# EAGLE library part ADS7809 (library burr-brown)
16-Bit 10us Serial CMOS Sampling ADC
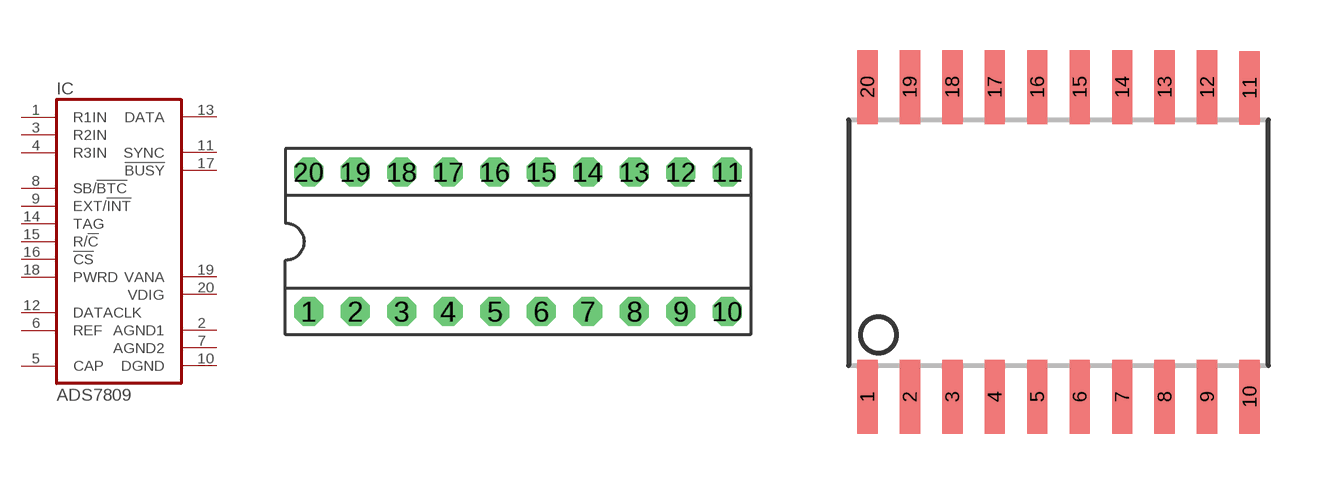
[diagram p35: symbol with the pads of DIL20; footprints DIL20, SO20L]

Designator prefix IC

## ADS7809P (MF: ALTERA CORPORATION; MPN: AD977ANZ; OC_FARNELL: 1079312; OC_NEWARK: 59K7418)  [DIL20]
1  R1IN  in
2  AGND1  pwr
3  R2IN  in
4  R3IN  in
5  CAP  pas
6  REF
7  AGND2  pwr
8  SB/!BTC  in
9  EXT/!INT  in
10  DGND  pwr
11  SYNC  out
12  DATACLK
13  DATA  out
14  TAG  in
15  R/!C  in
16  !CS  in
17  !BUSY  out
18  PWRD  in
19  VANA  pwr
20  VDIG  pwr

## ADS7809U (MF: TEXAS INSTRUMENTS; MPN: ADS7809U; OC_FARNELL: 1214386; OC_NEWARK: 80K5549)  [SO20L]
Pads as for DIL20

## Footprint DIL20 (pad centres in mm)
Dual In Line
drill 0.813 pad 1.6 octagon: 1 -11.43,-3.81; 2 -8.89,-3.81; 3 -6.35,-3.81; 4 -3.81,-3.81; 5 -1.27,-3.81; 6 1.27,-3.81; 7 3.81,-3.81; 8 6.35,-3.81; 9 8.89,-3.81; 10 11.43,-3.81; 11 11.43,3.81; 12 8.89,3.81; 13 6.35,3.81; 14 3.81,3.81; 15 1.27,3.81; 16 -1.27,3.81; 17 -3.81,3.81; 18 -6.35,3.81; 19 -8.89,3.81; 20 -11.43,3.81

## Footprint SO20L (pad centres in mm)
Small Outline Package, large
smd 0.61 x 2.21: 1 -5.715,-4.636; 2 -4.445,-4.636; 3 -3.175,-4.636; 4 -1.905,-4.636; 5 -0.635,-4.636; 6 0.635,-4.636; 7 1.905,-4.636; 8 3.175,-4.636; 9 4.445,-4.636; 10 5.715,-4.636; 11 5.715,4.61; 12 4.445,4.636; 13 3.175,4.636; 14 1.905,4.636; 15 0.635,4.636; 16 -0.635,4.636; 17 -1.905,4.636; 18 -3.175,4.636; 19 -4.445,4.636; 20 -5.715,4.636